# Altium integrated library LM7805.IntLib: 1 symbol
Pins are listed as number, name and electrical type; pins without a type are passive.

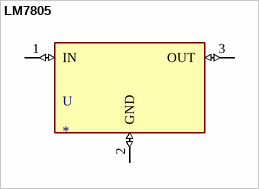
[diagram p0: symbol LM7805]

## LM7805
designator U
Linear Voltage Regulator IC 1 Output 1.5A SOT-223-4; MP: LM7805; MF: Texas Instruments; Availability: Unavailable; SnapEDA_Link: https://www.snapeda.com/parts/LM7805/Texas%20Instruments/view-part/2302466/?ref=snap; Price: None; Value: *; Package: TO-220 Texas Instruments
footprint TO220
pins: 1 IN (io), 2 GND (io), 3 OUT (io)